# EAGLE library part INA219 (library texas)
TI INA219 Voltage/Current/Power monitor with I2C Datasheet <http://www.ti.com/lit/ds/symlink/ina219.pdf>
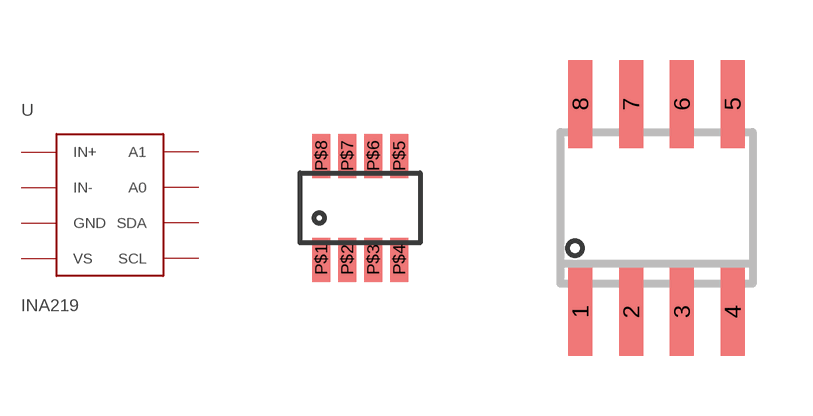
[diagram p134: symbol with the pads of SOT-23-8; footprints SOT-23-8, SO-08]

Designator prefix -

## INA219SOT23  [SOT-23-8]
P$1  IN+
P$2  IN-
P$3  GND
P$4  VS
P$5  SCL
P$6  SDA
P$7  A0
P$8  A1

## INA219SOIC  [SO-08]
1  A1
2  A0
3  SDA
4  SCL
5  VS
6  GND
7  IN-
8  IN+

## Footprint SOT-23-8 (pad centres in mm)
smd 0.45 x 1.1: P$1 -0.975,-1.3; P$2 -0.325,-1.3; P$3 0.325,-1.3; P$4 0.975,-1.3; P$5 0.975,1.3; P$6 0.325,1.3; P$7 -0.325,1.3; P$8 -0.975,1.3

## Footprint SO-08 (pad centres in mm)
Small Outline Integrated Circuit
smd 0.6 x 2.2: 1 -1.905,-2.6; 2 -0.635,-2.6; 3 0.635,-2.6; 4 1.905,-2.6; 5 1.905,2.6; 6 0.635,2.6; 7 -0.635,2.6; 8 -1.905,2.6